# EAGLE library part COMPACT_6CONN (library FA3D_lib)
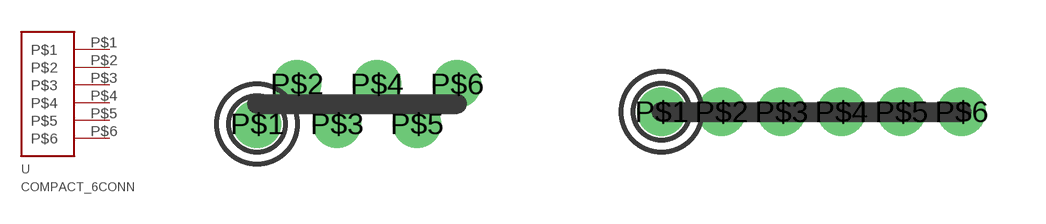
[diagram p12: symbol with the pads of COMPACT_6CONN; footprints COMPACT_6CONN, COMPACT_6CONN_STRAIGHT]

Designator prefix -

## COMPACT_6CONN  [COMPACT_6CONN]
P$1  P$1
P$2  P$2
P$3  P$3
P$4  P$4
P$5  P$5
P$6  P$6

## COMPACT_6CONNSTRAIGHT  [COMPACT_6CONN_STRAIGHT]
Pads as for COMPACT_6CONN

## Footprint COMPACT_6CONN (pad centres in mm)
drill 0.7: P$1 -3,0; P$2 -2,1; P$3 -1,0; P$4 0,1; P$5 1,0; P$6 2,1

## Footprint COMPACT_6CONN_STRAIGHT (pad centres in mm)
drill 0.7: P$1 0,0; P$2 1.5,0; P$3 3,0; P$4 4.5,0; P$5 6,0; P$6 7.5,0